# Altium footprint library IC.PcbLib: 99 footprints (part 6 of 7)
Each footprint in its own frame and in the unit in brackets; x right, y up, seen from the top. Pads: shape width x height; smd on the part's side, far side on the other; paste and mask are expansions set on the pad; w line width, h text height; cw(c..) or ccw(c..) is an arc to the next point about the centre after c.
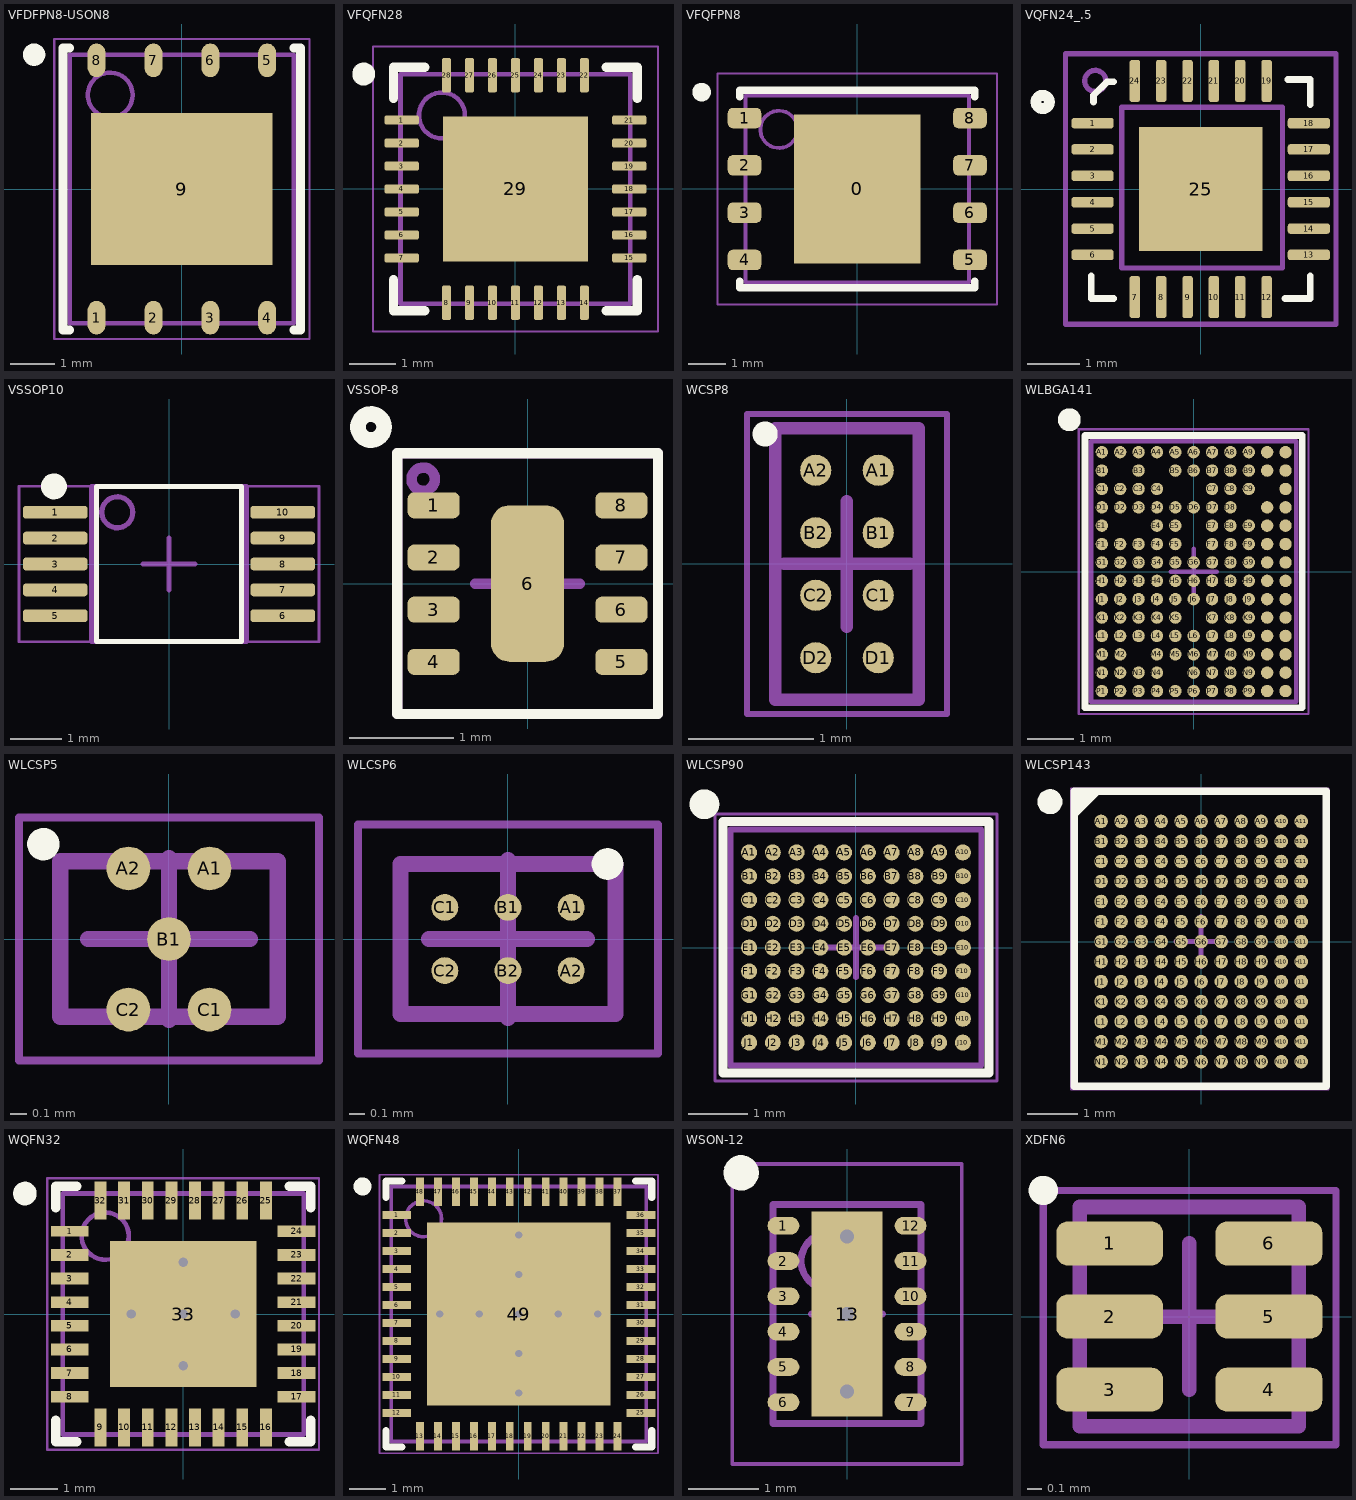
[diagram p5: the footprints below, top view; thin cyan lines are the x and y axes]

## VFDFPN8-USON8 [mm] "QFN, 8-Leads, Body 6,00x5,00mm, Pitch 1,27mm, Thermal Pad 4,05x3,40mm, IPC High Density"
height 1
pads (9):
  oval 0.4x0.75 smd: 1(-1.905,-2.875) 2(-0.635,-2.875) 3(0.635,-2.875) 4(1.905,-2.875) 5(1.905,2.875) 6(0.635,2.875) 7(-0.635,2.875) 8(-1.905,2.875)
  rect 4.05x3.4 smd: 9(0,0)
Top Overlay:
  circle w0.25: c-3.3,3 r0.125
  lines w0.2: -2.65,-0.035 -2.65,3.15 -2.505,3.15 ; -2.65,0.035 -2.65,-3.15 -2.505,-3.15 ; 2.505,-3.15 2.65,-3.15 2.65,0.035 ; 2.505,3.15 2.65,3.15 2.65,-0.035
Mechanical 13:
  circle w0.1: c-1.6,2.1 r0.5
  lines w0.1: -2.5,-3 2.5,-3 2.5,3 -2.5,3 -2.5,-3
Mechanical 15:
  lines w0.05: -2.85,-3.35 2.85,-3.35 2.85,3.35 -2.85,3.35 -2.85,-3.35
  lines w0.1: -0.5,0 0.5,0 ; 0,-0.5 0,0.5
3D body: height 1, standoff 0.05, extent -2.5,-3 2.5,3

## VFQFN28 [mm] "IC USB-TO-UART BRIDGE 28VQFN"
height 1
pads (29):
  rrect50% 0.75x0.2 smd mask+0.09: 1(-2.475,1.5) 2(-2.475,1) 3(-2.475,0.5) 4(-2.475,0) 5(-2.475,-0.5) 6(-2.475,-1) 7(-2.475,-1.5) 15(2.475,-1.5) 16(2.475,-1) 17(2.475,-0.5) 18(2.475,0) 19(2.475,0.5) 20(2.475,1) 21(2.475,1.5)
  rrect50% 0.2x0.75 smd mask+0.09: 8(-1.5,-2.475) 9(-1,-2.475) 10(-0.5,-2.475) 11(0,-2.475) 12(0.5,-2.475) 13(1,-2.475) 14(1.5,-2.475) 22(1.5,2.475) 23(1,2.475) 24(0.5,2.475) 25(0,2.475) 26(-0.5,2.475) 27(-1,2.475) 28(-1.5,2.475)
  rect 3.15x3.15 smd mask+0.09: 29(0,0)
Top Overlay:
  circle w0.25: c-3.3,2.5 r0.125
  lines w0.2: -2.65,-1.975 -2.65,-2.65 -1.975,-2.65 ; -2.65,1.975 -2.65,2.65 -1.975,2.65 ; 1.975,-2.65 2.65,-2.65 2.65,-1.975 ; 1.975,2.65 2.65,2.65 2.65,1.975
Mechanical 13:
  circle w0.1: c-1.6,1.6 r0.5
  lines w0.1: -2.5,-2.5 2.5,-2.5 2.5,2.5 -2.5,2.5 -2.5,-2.5
  text ".Designator" at -2.6,3.243 h0.5
Mechanical 15:
  lines w0.05: -3.1,-3.1 3.1,-3.1 3.1,3.1 -3.1,3.1 -3.1,-3.1
  lines w0.1: -0.5,0 0.5,0 ; 0,-0.5 0,0.5
3D body: height 1, standoff 0.02, extent -2.5,-2.5 2.5,2.5

## VFQFPN8 [mm]
height 1
pads (9):
  rect 3.4x4 smd: 0(0,0)
  rrect50% 0.9x0.55 smd: 1(-3.025,1.905) 2(-3.025,0.635) 3(-3.025,-0.635) 4(-3.025,-1.905) 5(3.025,-1.905) 6(3.025,-0.635) 7(3.025,0.635) 8(3.025,1.905)
Top Overlay:
  circle w0.25: c-4.175,2.6 r0.125
  lines w0.2: -3.15,-2.48 -3.15,-2.65 0.06,-2.65 ; -3.15,2.48 -3.15,2.65 0.06,2.65 ; -0.06,-2.65 3.15,-2.65 3.15,-2.48 ; -0.06,2.65 3.15,2.65 3.15,2.48
Mechanical 13:
  circle w0.1: c-2.1,1.6 r0.5
  lines w0.1: -3,-2.5 -3,2.5 3,2.5 3,-2.5 -3,-2.5
Mechanical 15:
  lines w0.05: -3.75,-3.1 -3.75,3.1 3.75,3.1 3.75,-3.1 -3.75,-3.1
  lines w0.1: -0.5,0 0.5,0 ; 0,-0.5 0,0.5
3D body: height 1, standoff 0.05, extent -3,-2.5 3,2.5

## VQFN24_.5 [mm]
pads (25):
  rrect50% 0.8x0.2 smd mask+0.06: 1(-2.05,1.25) 2(-2.05,0.75) 3(-2.05,0.25) 4(-2.05,-0.25) 5(-2.05,-0.75) 6(-2.05,-1.25) 13(2.05,-1.25) 14(2.05,-0.75) 15(2.05,-0.25) 16(2.05,0.25) 17(2.05,0.75) 18(2.05,1.25)
  rrect50% 0.2x0.8 smd mask+0.06: 7(-1.25,-2.05) 8(-0.75,-2.05) 9(-0.25,-2.05) 10(0.25,-2.05) 11(0.75,-2.05) 12(1.25,-2.05) 19(1.25,2.05) 20(0.75,2.05) 21(0.25,2.05) 22(-0.25,2.05) 23(-0.75,2.05) 24(-1.25,2.05)
  rect 2.35x2.35 smd mask+0.06: 25(0,0)
Top Overlay:
  circle w0.203: c-2.997,1.651 r0.127
  lines w0.127: -2.075,-1.651 -2.075,-2.075 -1.651,-2.075 ; -2.032,1.651 -2.032,1.778 -1.778,2.032 -1.651,2.032 ; 1.6,-2.075 2.075,-2.075 2.075,-1.651 ; 1.651,2.075 2.075,2.075 2.075,1.6
Mechanical 13:
  circle w0.1: c-2,2.05 r0.2
  lines w0.1: -1.5,-1.5 1.55,-1.5 1.55,1.55 -1.5,1.55 -1.5,-1.5
  text ".Designator" at -1.753,2.692 h0.5
Mechanical 15:
  lines w0.1: -0.5,0 0.5,0 ; 0,-0.5 0,0.5 ; -2.565,-2.565 2.565,-2.565 2.565,2.565 -2.565,2.565 -2.565,-2.565
3D body: height 1, standoff 0, extent -2,-2 2,2

## VSSOP10 [mm] "DGS"
height 0.9
pads (10):
  rrect50% 1.25x0.25 smd mask+0.08: 1(-2.2,1) 2(-2.2,0.5) 3(-2.2,0) 4(-2.2,-0.5) 5(-2.2,-1) 6(2.2,-1) 7(2.2,-0.5) 8(2.2,0) 9(2.2,0.5) 10(2.2,1)
Top Overlay:
  circle w0.25: c-2.225,1.5 r0.125
  lines w0.1: -1.4,-1.5 1.4,-1.5 1.4,1.5 -1.4,1.5 -1.4,-1.5
Mechanical 13:
  circle w0.1: c-1,1 r0.3
  lines w0.1: -1.5,-1.5 1.5,-1.5 1.5,1.5 -1.5,1.5 -1.5,-1.5
  text ".Designator" at -0.2,1.8 h0.5
Mechanical 15:
  lines w0.05: -2.9,-1.5 2.9,-1.5 2.9,1.5 -2.9,1.5 -2.9,-1.5
  lines w0.1: -0.5,0 0.5,0 ; 0,-0.5 0,0.5
3D body: height 0.9, standoff 0.02, extent -1.5,-1.5 1.5,1.5

## VSSOP-8 [mm]
height 0.9
pads (9):
  rrect50% 0.5x0.25 smd mask+0.08: 1(-0.9,0.75) 2(-0.9,0.25) 3(-0.9,-0.25) 4(-0.9,-0.75) 5(0.9,-0.75) 6(0.9,-0.25) 7(0.9,0.25) 8(0.9,0.75)
  rrect50% 0.7x1.5 smd mask+0.08: 6(0,0)
Top Overlay:
  circle w0.15: c-1.5,1.5 r0.125
  lines w0.1: -1.25,-1.25 1.25,-1.25 1.25,1.25 -1.25,1.25 -1.25,-1.25
Mechanical 13:
  circle w0.1: c-1,1 r0.112
  lines w0.1: -1.25,-1.25 1.25,-1.25 1.25,1.25 -1.25,1.25 -1.25,-1.25
  text ".Designator" at -1.55,-0.15 h0.5
Mechanical 15:
  lines w0.05: -1.25,-1.25 1.25,-1.25 1.25,1.25 -1.25,1.25 -1.25,-1.25
  lines w0.1: -0.5,0 0.5,0 ; 0,-0.5 0,0.5
3D body: height 0.9, standoff 0.02, extent -1.25,-1.25 1.25,1.25

## WCSP8 [mm] "WCSP8"
height 0.63
pads (8):
  round 0.25 smd mask+0.05: A1(0.25,0.75) A2(-0.25,0.75) B1(0.25,0.25) B2(-0.25,0.25) C1(0.25,-0.25) C2(-0.25,-0.25) D1(0.25,-0.75) D2(-0.25,-0.75)
Top Overlay:
  circle w0.1: c-0.655,1.04 r0.05
Mechanical 13:
  lines w0.1: -0.575,-1.085 0.575,-1.085 0.575,1.085 -0.575,1.085 -0.575,-1.085
Mechanical 15:
  lines w0.05: -0.8,-1.2 0.8,-1.2 0.8,1.2 -0.8,1.2 -0.8,-1.2
  lines w0.1: -0.5,0 0.5,0 ; 0,-0.5 0,0.5
3D body: height 0.63, standoff 0.21, extent -0.575,-1.085 0.575,1.085

## WLBGA141 [mm]
height 0.55
pads (141):
  round 0.27 smd mask-0.025: A1(-2,2.6) A2(-1.6,2.6) A3(-1.2,2.6) A4(-0.8,2.6) A5(-0.4,2.6) A6(0,2.6) A7(0.4,2.6) A8(0.8,2.6) A9(1.2,2.6) A10(1.6,2.6) A11(2,2.6) B1(-2,2.2) B3(-1.2,2.2) B5(-0.4,2.2) B6(0,2.2) B7(0.4,2.2) B8(0.8,2.2) B9(1.2,2.2) B10(1.6,2.2) B11(2,2.2) C1(-2,1.8) C2(-1.6,1.8) C3(-1.2,1.8) C4(-0.8,1.8) C7(0.4,1.8) C8(0.8,1.8) C9(1.2,1.8) C11(2,1.8) D1(-2,1.4) D2(-1.6,1.4) D3(-1.2,1.4) D4(-0.8,1.4) D5(-0.4,1.4) D6(0,1.4) D7(0.4,1.4) D8(0.8,1.4) D10(1.6,1.4) D11(2,1.4) E1(-2,1) E4(-0.8,1) E5(-0.4,1) E7(0.4,1) E8(0.8,1) E9(1.2,1) E10(1.6,1) E11(2,1) F1(-2,0.6) F2(-1.6,0.6) F3(-1.2,0.6) F4(-0.8,0.6) F5(-0.4,0.6) F7(0.4,0.6) F8(0.8,0.6) F9(1.2,0.6) F10(1.6,0.6) F11(2,0.6) G1(-2,0.2) G2(-1.6,0.2) G3(-1.2,0.2) G4(-0.8,0.2) G5(-0.4,0.2) G6(0,0.2) G7(0.4,0.2) G8(0.8,0.2) G9(1.2,0.2) G10(1.6,0.2) G11(2,0.2) H1(-2,-0.2) H2(-1.6,-0.2) H3(-1.2,-0.2) H4(-0.8,-0.2) H5(-0.4,-0.2) H6(0,-0.2) H7(0.4,-0.2) H8(0.8,-0.2) H9(1.2,-0.2) H10(1.6,-0.2) H11(2,-0.2) J1(-2,-0.6) J2(-1.6,-0.6) J3(-1.2,-0.6) J4(-0.8,-0.6) J5(-0.4,-0.6) J6(0,-0.6) J7(0.4,-0.6) J8(0.8,-0.6) J9(1.2,-0.6) J10(1.6,-0.6) J11(2,-0.6) K1(-2,-1) K2(-1.6,-1) K3(-1.2,-1) K4(-0.8,-1) K5(-0.4,-1) K7(0.4,-1) K8(0.8,-1) K9(1.2,-1) K10(1.6,-1) K11(2,-1) L1(-2,-1.4) L2(-1.6,-1.4) L3(-1.2,-1.4) L4(-0.8,-1.4) L5(-0.4,-1.4) L6(0,-1.4) L7(0.4,-1.4) L8(0.8,-1.4) L9(1.2,-1.4) L10(1.6,-1.4) L11(2,-1.4) M1(-2,-1.8) M2(-1.6,-1.8) M4(-0.8,-1.8) M5(-0.4,-1.8) M6(0,-1.8) M7(0.4,-1.8) M8(0.8,-1.8) M9(1.2,-1.8) M10(1.6,-1.8) M11(2,-1.8) N1(-2,-2.2) N2(-1.6,-2.2) N3(-1.2,-2.2) N4(-0.8,-2.2) N6(0,-2.2) N7(0.4,-2.2) N8(0.8,-2.2) N9(1.2,-2.2) N10(1.6,-2.2) N11(2,-2.2) P1(-2,-2.6) P2(-1.6,-2.6) P3(-1.2,-2.6) P4(-0.8,-2.6) P5(-0.4,-2.6) P6(0,-2.6) P7(0.4,-2.6) P8(0.8,-2.6) P9(1.2,-2.6) P10(1.6,-2.6) P11(2,-2.6)
Top Overlay:
  circle w0.25: c-2.709,3.307 r0.125
  lines w0.15: -2.365,-2.965 2.365,-2.965 2.365,2.965 -2.365,2.965 -2.365,-2.965
Mechanical 13:
  lines w0.1: -2.235,-2.835 2.235,-2.835 2.235,2.835 -2.235,2.835 -2.235,-2.835
Mechanical 15:
  lines w0.05: -2.5,-3.1 2.5,-3.1 2.5,3.1 -2.5,3.1 -2.5,-3.1
  lines w0.1: -0.5,0 0.5,0 ; 0,-0.5 0,0.5
3D body: height 0.55, standoff 0.16, extent -2.235,-2.835 2.235,2.835

## WLCSP5 [mm] "Integrated USB 2.0 and USB OTG ESD protection to   IEC 61000-4-2 level 4"
height 0.65
pads (5):
  round 0.27 smd mask+0.05: A1(0.25,0.435) A2(-0.25,0.435) B1(0,0) C1(0.25,-0.435) C2(-0.25,-0.435)
Top Overlay:
  circle w0.1: c-0.775,0.585 r0.05
Mechanical 13:
  lines w0.1: -0.67,-0.48 0.67,-0.48 0.67,0.48 -0.67,0.48 -0.67,-0.48
  text ".Designator" at -1.381,0.932 h0.5
Mechanical 15:
  lines w0.05: -0.925,-0.75 0.925,-0.75 0.925,0.75 -0.925,0.75 -0.925,-0.75
  lines w0.1: -0.5,0 0.5,0 ; 0,-0.5 0,0.5
3D body: height 0.65, standoff 0.44, extent -0.67,-0.48 0.67,0.48

## WLCSP6 [mm] "WLCSP6, 6-Leads, Body 1,36x0,95mmx0,47mm, Pitch 0,40mm"
height 0.47
pads (6):
  round 0.17 smd mask+0.05: A1(0.4,0.2) A2(0.4,-0.2) B1(0,0.2) B2(0,-0.2) C1(-0.4,0.2) C2(-0.4,-0.2)
Top Overlay:
  circle w0.1: c0.63,0.475 r0.05
Mechanical 13:
  lines w0.1: -0.68,-0.475 0.68,-0.475 0.68,0.475 -0.68,0.475 -0.68,-0.475
  text ".Designator" at -1.813,0.83 h0.5
Mechanical 15:
  lines w0.05: -0.95,-0.725 0.95,-0.725 0.95,0.725 -0.95,0.725 -0.95,-0.725
  lines w0.1: -0.5,0 0.5,0 ; 0,-0.5 0,0.5
3D body: height 0.47, standoff 0.2, extent -0.68,-0.475 0.68,0.475

## WLCSP90 [mm]
height 0.57
pads (90):
  round 0.27 smd mask-0.025: A1(-1.8,1.6) A2(-1.4,1.6) A3(-1,1.6) A4(-0.6,1.6) A5(-0.2,1.6) A6(0.2,1.6) A7(0.6,1.6) A8(1,1.6) A9(1.4,1.6) A10(1.8,1.6) B1(-1.8,1.2) B2(-1.4,1.2) B3(-1,1.2) B4(-0.6,1.2) B5(-0.2,1.2) B6(0.2,1.2) B7(0.6,1.2) B8(1,1.2) B9(1.4,1.2) B10(1.8,1.2) C1(-1.8,0.8) C2(-1.4,0.8) C3(-1,0.8) C4(-0.6,0.8) C5(-0.2,0.8) C6(0.2,0.8) C7(0.6,0.8) C8(1,0.8) C9(1.4,0.8) C10(1.8,0.8) D1(-1.8,0.4) D2(-1.4,0.4) D3(-1,0.4) D4(-0.6,0.4) D5(-0.2,0.4) D6(0.2,0.4) D7(0.6,0.4) D8(1,0.4) D9(1.4,0.4) D10(1.8,0.4) E1(-1.8,0) E2(-1.4,0) E3(-1,0) E4(-0.6,0) E5(-0.2,0) E6(0.2,0) E7(0.6,0) E8(1,0) E9(1.4,0) E10(1.8,0) F1(-1.8,-0.4) F2(-1.4,-0.4) F3(-1,-0.4) F4(-0.6,-0.4) F5(-0.2,-0.4) F6(0.2,-0.4) F7(0.6,-0.4) F8(1,-0.4) F9(1.4,-0.4) F10(1.8,-0.4) G1(-1.8,-0.8) G2(-1.4,-0.8) G3(-1,-0.8) G4(-0.6,-0.8) G5(-0.2,-0.8) G6(0.2,-0.8) G7(0.6,-0.8) G8(1,-0.8) G9(1.4,-0.8) G10(1.8,-0.8) H1(-1.8,-1.2) H2(-1.4,-1.2) H3(-1,-1.2) H4(-0.6,-1.2) H5(-0.2,-1.2) H6(0.2,-1.2) H7(0.6,-1.2) H8(1,-1.2) H9(1.4,-1.2) H10(1.8,-1.2) J1(-1.8,-1.6) J2(-1.4,-1.6) J3(-1,-1.6) J4(-0.6,-1.6) J5(-0.2,-1.6) J6(0.2,-1.6) J7(0.6,-1.6) J8(1,-1.6) J9(1.4,-1.6) J10(1.8,-1.6)
Top Overlay:
  circle w0.25: c-2.551,2.412 r0.125
  lines w0.15: -2.24,-2.115 -2.24,2.119 2.24,2.119 2.24,-2.115 -2.24,-2.115
Mechanical 13:
  lines w0.1: -2.11,-1.985 -2.11,1.985 2.11,1.985 2.11,-1.985 -2.11,-1.985
Mechanical 15:
  lines w0.05: -2.375,-2.25 -2.375,2.25 2.375,2.25 2.375,-2.25 -2.375,-2.25
  lines w0.1: -0.5,0 0.5,0 ; 0,-0.5 0,0.5
3D body: height 0.57, standoff 0.19, extent -2.11,-1.985 2.11,1.985

## WLCSP143 [mm]
height 0.56
pads (143):
  round 0.27 smd paste+0 mask-0.025: A1(-2,2.4) A2(-1.6,2.4) A3(-1.2,2.4) A4(-0.8,2.4) A5(-0.4,2.4) A6(0,2.4) A7(0.4,2.4) A8(0.8,2.4) A9(1.2,2.4) A10(1.6,2.4) A11(2,2.4) B1(-2,2) B2(-1.6,2) B3(-1.2,2) B4(-0.8,2) B5(-0.4,2) B6(0,2) B7(0.4,2) B8(0.8,2) B9(1.2,2) B10(1.6,2) B11(2,2) C1(-2,1.6) C2(-1.6,1.6) C3(-1.2,1.6) C4(-0.8,1.6) C5(-0.4,1.6) C6(0,1.6) C7(0.4,1.6) C8(0.8,1.6) C9(1.2,1.6) C10(1.6,1.6) C11(2,1.6) D1(-2,1.2) D2(-1.6,1.2) D3(-1.2,1.2) D4(-0.8,1.2) D5(-0.4,1.2) D6(0,1.2) D7(0.4,1.2) D8(0.8,1.2) D9(1.2,1.2) D10(1.6,1.2) D11(2,1.2) E1(-2,0.8) E2(-1.6,0.8) E3(-1.2,0.8) E4(-0.8,0.8) E5(-0.4,0.8) E6(0,0.8) E7(0.4,0.8) E8(0.8,0.8) E9(1.2,0.8) E10(1.6,0.8) E11(2,0.8) F1(-2,0.4) F2(-1.6,0.4) F3(-1.2,0.4) F4(-0.8,0.4) F5(-0.4,0.4) F6(0,0.4) F7(0.4,0.4) F8(0.8,0.4) F9(1.2,0.4) F10(1.6,0.4) F11(2,0.4) G1(-2,0) G2(-1.6,0) G3(-1.2,0) G4(-0.8,0) G5(-0.4,0) G6(0,0) G7(0.4,0) G8(0.8,0) G9(1.2,0) G10(1.6,0) G11(2,0) H1(-2,-0.4) H2(-1.6,-0.4) H3(-1.2,-0.4) H4(-0.8,-0.4) H5(-0.4,-0.4) H6(0,-0.4) H7(0.4,-0.4) H8(0.8,-0.4) H9(1.2,-0.4) H10(1.6,-0.4) H11(2,-0.4) J1(-2,-0.8) J2(-1.6,-0.8) J3(-1.2,-0.8) J4(-0.8,-0.8) J5(-0.4,-0.8) J6(0,-0.8) J7(0.4,-0.8) J8(0.8,-0.8) J9(1.2,-0.8) J10(1.6,-0.8) J11(2,-0.8) K1(-2,-1.2) K2(-1.6,-1.2) K3(-1.2,-1.2) K4(-0.8,-1.2) K5(-0.4,-1.2) K6(0,-1.2) K7(0.4,-1.2) K8(0.8,-1.2) K9(1.2,-1.2) K10(1.6,-1.2) K11(2,-1.2) L1(-2,-1.6) L2(-1.6,-1.6) L3(-1.2,-1.6) L4(-0.8,-1.6) L5(-0.4,-1.6) L6(0,-1.6) L7(0.4,-1.6) L8(0.8,-1.6) L9(1.2,-1.6) L10(1.6,-1.6) L11(2,-1.6) M1(-2,-2) M2(-1.6,-2) M3(-1.2,-2) M4(-0.8,-2) M5(-0.4,-2) M6(0,-2) M7(0.4,-2) M8(0.8,-2) M9(1.2,-2) M10(1.6,-2) M11(2,-2) N1(-2,-2.4) N2(-1.6,-2.4) N3(-1.2,-2.4) N4(-0.8,-2.4) N5(-0.4,-2.4) N6(0,-2.4) N7(0.4,-2.4) N8(0.8,-2.4) N9(1.2,-2.4) N10(1.6,-2.4) N11(2,-2.4)
Top Overlay:
  circle w0.25: c-3.021,2.794 r0.125
  region: -2.079,3 -2.5,2.579 -2.5,3
  lines w0.15: -2.5,2.579 -2.079,3 ; -2.54,-2.896 -2.54,3 2.5,3 2.5,-2.896 -2.54,-2.896
Mechanical 13:
  lines w0.1: -2.515,-2.896 -2.515,2.997 2.489,2.997 2.489,-2.896 -2.515,-2.896
Mechanical 15:
  lines w0.05: -2.591,-2.946 -2.591,3.048 2.54,3.048 2.54,-2.946 -2.591,-2.946
  lines w0.1: -0.5,0 0.5,0 ; 0,-0.5 0,0.5
3D body: height 0.56, standoff 0.18, extent -2.464,-2.896 2.493,2.997

## WQFN32 [mm] "QFN, 32-Leads, Body 5,00x5,00mm, Pitch 0,50mm, Thermal Pad 3,10x3,10mm, IPC High Density"
height 0.8
pads (33):
  rect 0.8x0.22 smd mask+0.05: 1(-2.4,1.75)
  rect 0.8x0.25 smd mask+0.05: 2(-2.4,1.25) 3(-2.4,0.75) 4(-2.4,0.25) 5(-2.4,-0.25) 6(-2.4,-0.75) 7(-2.4,-1.25) 8(-2.4,-1.75) 17(2.4,-1.75) 18(2.4,-1.25) 19(2.4,-0.75) 20(2.4,-0.25) 21(2.4,0.25) 22(2.4,0.75) 23(2.4,1.25) 24(2.4,1.75)
  rect 0.25x0.8 smd mask+0.05: 9(-1.75,-2.4) 10(-1.25,-2.4) 11(-0.75,-2.4) 12(-0.25,-2.4) 13(0.25,-2.4) 14(0.75,-2.4) 15(1.25,-2.4) 16(1.75,-2.4) 25(1.75,2.4) 26(1.25,2.4) 27(0.75,2.4) 28(0.25,2.4) 29(-0.25,2.4) 30(-0.75,2.4) 31(-1.25,2.4) 32(-1.75,2.4)
  rect 3.1x3.1 smd paste-100 mask-100: 33(0,0)
via 0,1.1 diameter 0.5 hole 0.2
via -1.1,0 diameter 0.5 hole 0.2
via 0,0 diameter 0.5 hole 0.2
via 1.1,0 diameter 0.5 hole 0.2
via 0,-1.1 diameter 0.5 hole 0.2
Top Overlay:
  circle w0.25: c-3.35,2.55 r0.125
  lines w0.2: -2.7,-2.25 -2.7,-2.7 -2.25,-2.7 ; -2.7,2.25 -2.7,2.7 -2.25,2.7 ; 2.25,-2.7 2.7,-2.7 2.7,-2.25 ; 2.25,2.7 2.7,2.7 2.7,2.25
Top Paste:
  rectangle: -1.55,-1.55 -0.3,-0.3
  rectangle: -1.55,0.3 -0.3,1.55
  rectangle: 0.3,0.3 1.55,1.55
  rectangle: 0.3,-1.55 1.55,-0.3
Top Solder:
  rectangle: 0.3,-1.55 1.55,-0.3
  rectangle: 0.3,0.3 1.55,1.55
  rectangle: -1.55,0.3 -0.3,1.55
  rectangle: -1.55,-1.55 -0.3,-0.3
Mechanical 13:
  circle w0.1: c-1.65,1.65 r0.5
  lines w0.1: -2.55,-2.55 -2.55,2.55 2.55,2.55 2.55,-2.55 -2.55,-2.55
Mechanical 15:
  lines w0.05: -2.875,-2.875 -2.875,2.875 2.875,2.875 2.875,-2.875 -2.875,-2.875
  lines w0.1: -0.5,0 0.5,0 ; 0,-0.5 0,0.5
3D body: height 0.8, standoff 0.1, extent -2.55,-2.55 2.55,2.55

## WQFN48 [mm] "QFN, 48-Leads, Body 7,00x7,00mm, Pitch 0,50mm, Thermal Pad 5,10x5,10mm, IPC High Density"
height 0.8
pads (49):
  rect 0.8x0.22 smd mask+0.05: 1(-3.4,2.75) 2(-3.4,2.25) 3(-3.4,1.75) 4(-3.4,1.25) 5(-3.4,0.75) 6(-3.4,0.25) 7(-3.4,-0.25) 8(-3.4,-0.75) 9(-3.4,-1.25) 10(-3.4,-1.75) 11(-3.4,-2.25) 12(-3.4,-2.75) 25(3.4,-2.75) 26(3.4,-2.25) 27(3.4,-1.75) 28(3.4,-1.25) 29(3.4,-0.75) 30(3.4,-0.25) 31(3.4,0.25) 32(3.4,0.75) 33(3.4,1.25) 34(3.4,1.75) 35(3.4,2.25) 36(3.4,2.75)
  rect 0.22x0.8 smd mask+0.05: 13(-2.75,-3.4) 14(-2.25,-3.4) 15(-1.75,-3.4) 16(-1.25,-3.4) 17(-0.75,-3.4) 18(-0.25,-3.4) 19(0.25,-3.4) 20(0.75,-3.4) 21(1.25,-3.4) 22(1.75,-3.4) 23(2.25,-3.4) 24(2.75,-3.4) 37(2.75,3.4) 38(2.25,3.4) 39(1.75,3.4) 40(1.25,3.4) 41(0.75,3.4) 42(0.25,3.4) 43(-0.25,3.4) 44(-0.75,3.4) 45(-1.25,3.4) 46(-1.75,3.4) 47(-2.25,3.4) 48(-2.75,3.4)
  rect 5.1x5.1 smd paste-200 mask-200: 49(0,0)
via 0,-2.2 diameter 0.5 hole 0.2
via 0,-1.1 diameter 0.5 hole 0.2
via 2.2,0 diameter 0.5 hole 0.2
via 1.1,0 diameter 0.5 hole 0.2
via 0,0 diameter 0.5 hole 0.2
via -1.1,0 diameter 0.5 hole 0.2
via -2.2,0 diameter 0.5 hole 0.2
via 0,1.1 diameter 0.5 hole 0.2
via 0,2.2 diameter 0.5 hole 0.2
Top Overlay:
  circle w0.25: c-4.35,3.55 r0.125
  lines w0.2: -3.7,-3.25 -3.7,-3.7 -3.25,-3.7 ; -3.7,3.25 -3.7,3.7 -3.25,3.7 ; 3.25,-3.7 3.7,-3.7 3.7,-3.25 ; 3.25,3.7 3.7,3.7 3.7,3.25
Top Paste:
  rectangle: -2.55,-2.55 -0.325,-0.325
  rectangle: -2.55,0.325 -0.325,2.55
  rectangle: 0.325,0.325 2.55,2.55
  rectangle: 0.325,-2.55 2.55,-0.325
Top Solder:
  rectangle: 0.325,-2.55 2.55,-0.325
  rectangle: 0.325,0.325 2.55,2.55
  rectangle: -2.55,0.325 -0.325,2.55
  rectangle: -2.55,-2.55 -0.325,-0.325
Mechanical 13:
  circle w0.1: c-2.65,2.65 r0.5
  lines w0.1: -3.55,-3.55 3.55,-3.55 3.55,3.55 -3.55,3.55 -3.55,-3.55
Mechanical 15:
  lines w0.05: -3.875,-3.875 3.875,-3.875 3.875,3.875 -3.875,3.875 -3.875,-3.875
  lines w0.1: -0.5,0 0.5,0 ; 0,-0.5 0,0.5
3D body: height 0.8, standoff 0.2, extent -3.55,-3.55 3.55,3.55

## WSON-12 [mm] "WSON, 12-Leads, Body 3.00x2.00mm, Pitch 0.50mm, Thermal Pad 2.90x1.00mm, IPC Medium Density"
height 0.8
pads (13):
  oval 0.45x0.25 smd mask+0.016: 1(-0.9,1.25) 2(-0.9,0.75) 3(-0.9,0.25) 4(-0.9,-0.25) 5(-0.9,-0.75) 6(-0.9,-1.25) 7(0.9,-1.25) 8(0.9,-0.75) 9(0.9,-0.25) 10(0.9,0.25) 11(0.9,0.75) 12(0.9,1.25)
  rect 1x2.9 smd mask+0.06: 13(0,0)
via 0,1.1 diameter 0.5 hole 0.2
via 0,0 diameter 0.5 hole 0.2
via 0,-1.1 diameter 0.5 hole 0.2
Top Overlay:
  circle w0.25: c-1.5,2 r0.125
Mechanical 13:
  circle w0.1: c-0.25,0.75 r0.4
  lines w0.1: -1.05,-1.55 -1.05,1.55 1.05,1.55 1.05,-1.55 -1.05,-1.55
Mechanical 15:
  lines w0.05: -1.625,-2.125 -1.625,2.125 1.625,2.125 1.625,-2.125 -1.625,-2.125
  lines w0.1: -0.5,0 0.5,0 ; 0,-0.5 0,0.5
3D body: height 0.8, standoff 0.01, extent -1.05,-1.55 1.05,1.55

## XDFN6 [mm] "XDFN6"
height 0.45
pads (6):
  rrect50% 0.73x0.3 smd mask+0.05: 1(-0.545,0.5) 2(-0.545,0) 3(-0.545,-0.5) 4(0.545,-0.5) 5(0.545,0) 6(0.545,0.5)
Top Overlay:
  circle w0.1: c-0.999,0.863 r0.05
Mechanical 13:
  lines w0.1: -0.75,-0.75 0.75,-0.75 0.75,0.75 -0.75,0.75 -0.75,-0.75
Mechanical 15:
  lines w0.05: -0.999,-0.878 1.004,-0.878 1.004,0.863 -0.999,0.863 -0.999,-0.878
  lines w0.1: -0.5,0 0.5,0 ; 0,-0.5 0,0.5
3D body: height 0.45, standoff 0.05, extent -0.75,-0.75 0.75,0.75